# Altium footprint library 搅拌杯PCB.PcbLib: 17 footprints (part 1 of 2)
Each footprint in its own frame and in the unit in brackets; x right, y up, seen from the top. Pads: shape width x height; smd on the part's side, far side on the other; paste and mask are expansions set on the pad; w line width, h text height; cw(c..) or ccw(c..) is an arc to the next point about the centre after c.
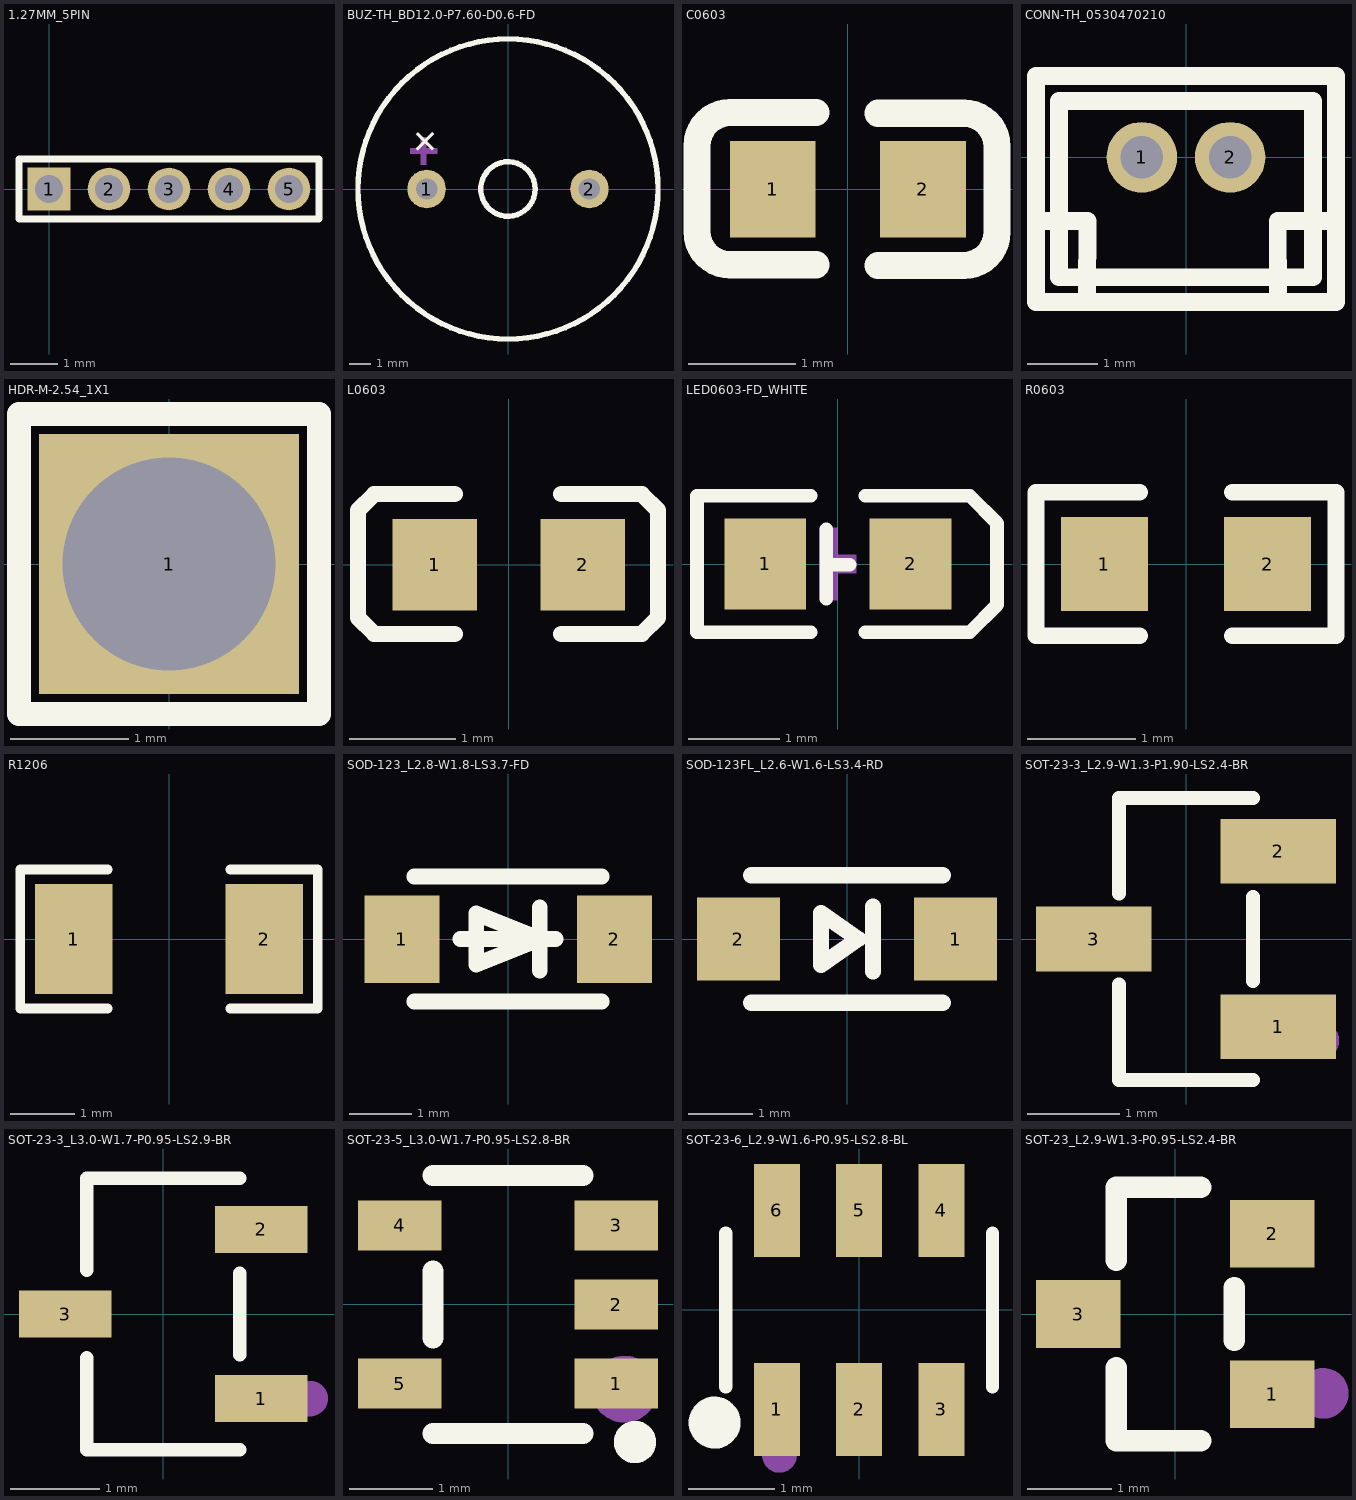
[diagram p0: the footprints below, top view; thin cyan lines are the x and y axes]

## 1.27MM_5PIN [mm]
pads (5):
  rect 0.9x0.9 hole 0.6: 1(0,0)
  round 0.9 hole 0.6: 2(1.27,0) 3(2.54,0) 4(3.81,0) 5(5.08,0)
Top Overlay:
  lines w0.15: -0.635,-0.635 5.715,-0.635 5.715,0.635 -0.635,0.635 -0.635,-0.635

## BUZ-TH_BD12.0-P7.60-D0.6-FD [mm]
pads (2):
  round 1.8 hole 1: 1(-3.8,0) 2(3.8,0)
Top Overlay:
  circle w0.254: c0,0 r7
  circle w0.254: c0,0 r1.27
  text "+" at -3.996,1.316 h1.27
Mechanical 15:
  region: -4.064,1.27 -4.064,2.413 -3.81,2.413 -3.81,1.143 -4.064,1.143
  region: -4.445,1.905 -3.302,1.905 -3.302,1.651 -4.572,1.651 -4.572,1.905

## C0603 [mm]
pads (2):
  rect 0.8x0.9 smd: 1(-0.7,0) 2(0.7,0)
Top Overlay:
  lines w0.254: -0.296,-0.704 -1.096,-0.704 cw(c-1.096,-0.394) -1.406,-0.394 -1.405,0.406 cw(c-1.096,0.406) -1.096,0.715 -0.296,0.715 ; 0.28,-0.71 1.08,-0.71 ccw(c1.08,-0.4) 1.39,-0.4 1.39,0.4 ccw(c1.08,0.4) 1.08,0.71 0.28,0.71

## CONN-TH_0530470210 [mm]
pads (2):
  round 1 hole 0.6: 1(-0.625,0) 2(0.625,0)
Top Overlay:
  lines w0.254: -2.1,-0.9 -1.398,-0.9 -1.4,-2 ; 1.302,-2 1.3,-0.9 2.002,-0.9 ; -2.125,-2.05 2.125,-2.05 2.125,1.15 -2.125,1.151 -2.125,-2.05 ; -1.8,-1.7 -1.8,0.8 1.8,0.8 1.8,-1.7 -1.8,-1.7

## HDR-M-2.54_1X1 [mm]
pads (1):
  rect 2.2x2.2 hole 1.8: 1(0,0)
Top Overlay:
  lines w0.203: -1.27,-1.27 -1.27,1.27 1.27,1.27 1.27,-0.635 1.27,-1.27 -1.27,-1.27

## L0603 [mm]
pads (2):
  rect 0.8x0.864 smd: 1(-0.7,0) 2(0.7,0)
Top Overlay:
  lines w0.152: -0.51,-0.651 -1.272,-0.651 -1.424,-0.499 -1.424,0.517 -1.272,0.67 -0.51,0.67 ; 0.496,-0.651 1.258,-0.651 1.411,-0.499 1.411,0.517 1.258,0.67 0.496,0.67
Top Paste:
  region: 0.264,0.154 0.264,-0.122 0.538,-0.416 1.042,-0.416 1.106,-0.352 1.106,0.384 1.042,0.448 0.538,0.448
  region: -0.252,0.143 -0.252,-0.134 -0.526,-0.427 -1.029,-0.427 -1.093,-0.363 -1.093,0.373 -1.029,0.437 -0.526,0.437

## LED0603-FD_WHITE [mm]
pads (2):
  rect 0.9x1 smd: 1(-0.8,0) 2(0.8,0)
Top Overlay:
  lines w0.15: -1.55,-0.75 -0.3,-0.75 ; -1.55,-0.75 -1.55,0.73 ; -1.55,0.75 -0.3,0.75 ; -0.127,-0.381 -0.127,0.381 ; -0.127,-0.006 0.127,-0.006 ; 0.3,-0.75 1.45,-0.75 1.75,-0.45 1.75,-0.35 1.75,0.35 1.75,0.45 1.45,0.75 0.3,0.75
Mechanical 15:
  region: -0.865,-0.273 -0.865,0.327 -0.715,0.327 -0.715,-0.273
  region: 0.6,0.1 1.2,0.1 1.2,-0.05 0.6,-0.05
  region: -1.1,0.1 -0.5,0.1 -0.5,-0.05 -1.1,-0.05
  region: -0.2,0.4 0,0.4 0,-0.4 -0.2,-0.4
  region: 0,0.1 0.2,0.1 0.2,-0.1 0,-0.1

## R0603 [mm]
pads (2):
  rect 0.806x0.864 smd: 1(-0.753,0) 2(0.753,0)
Top Overlay:
  lines w0.152: -0.426,-0.661 -1.385,-0.661 -1.385,0.661 -0.426,0.661 ; 0.426,-0.661 1.385,-0.661 1.385,0.661 0.426,0.661
Top Paste:
  region: 1.195,0.45 0.395,0.45 0.345,0.4 0.345,0.172 0.715,0.172 0.715,-0.158 0.345,-0.158 0.345,-0.4 0.395,-0.45 1.195,-0.45 1.245,-0.4 1.245,0.4
  region: -0.355,0.4 -0.355,0.172 -0.735,0.172 -0.735,-0.158 -0.355,-0.158 -0.355,-0.4 -0.405,-0.45 -1.195,-0.45 -1.245,-0.4 -1.245,0.4 -1.195,0.45 -0.405,0.45

## R1206 [mm]
pads (2):
  rect 1.208x1.701 smd: 1(-1.479,0) 2(1.479,0)
Top Overlay:
  lines w0.152: -0.951,-1.079 -2.311,-1.079 -2.311,1.079 -0.951,1.079 ; 0.951,-1.079 2.311,-1.079 2.311,1.079 0.951,1.079
Top Paste:
  region: 0.875,-0.75 0.875,-0.389 0.975,-0.289 1.186,-0.289 1.286,-0.189 1.286,0.189 1.186,0.289 0.975,0.289 0.875,0.389 0.875,0.75 0.975,0.85 1.983,0.85 2.083,0.75 2.083,-0.75 1.983,-0.85 0.975,-0.85
  region: -0.875,-0.75 -0.875,-0.389 -0.975,-0.289 -1.186,-0.289 -1.286,-0.189 -1.286,0.189 -1.186,0.289 -0.975,0.289 -0.875,0.389 -0.875,0.75 -0.975,0.85 -1.983,0.85 -2.083,0.75 -2.083,-0.75 -1.983,-0.85 -0.975,-0.85

## SOD-123_L2.8-W1.8-LS3.7-FD [mm]
pads (2):
  rect 1.2x1.4 smd: 1(-1.7,0) 2(1.7,0)
Top Overlay:
  lines w0.254: -1.5,-1 1.5,-1 ; -1.5,1 1.5,1 ; -0.762,0 0.762,0 ; 0.508,-0.508 0.508,0.508 ; -0.508,-0.406 -0.508,0.406 0.508,0 -0.508,-0.406
Mechanical 15:
  region: -2.166,0.213 -1.291,0.213 -1.291,0.043 -2.166,0.043 -2.166,0.053
  region: -1.812,-0.378 -1.812,0.497 -1.642,0.497 -1.642,-0.378 -1.652,-0.378
  region: 1.308,0.141 2.183,0.141 2.183,-0.028 1.308,-0.028 1.308,-0.019

## SOD-123FL_L2.6-W1.6-LS3.4-RD [mm]
pads (2):
  rect 1.3x1.3 smd: 1(1.7,0) 2(-1.7,0)
Top Overlay:
  lines w0.254: -1.5,-1 1.5,-1 ; -1.5,1 1.5,1 ; 0.406,-0.508 0.406,0.508 ; -0.406,-0.406 -0.406,0.406 0.178,0 -0.406,-0.406
Mechanical 15:
  region: 1.35,0.05 2.082,0.05 2.082,-0.16 1.35,-0.16 1.35,-0.154
  region: -1.85,0.55 -1.6,0.55 -1.6,-0.4 -1.85,-0.4
  region: -2.115,0.213 -1.383,0.213 -1.383,0.003 -2.115,0.003 -2.115,0.009

## SOT-23-3_L2.9-W1.3-P1.90-LS2.4-BR [mm]
pads (3):
  rect 1.25x0.7 smd: 1(1,-0.95) 2(1,0.95) 3(-1,0)
Top Overlay:
  lines w0.152: -0.726,-0.495 -0.726,-1.526 0.726,-1.526 ; -0.726,0.495 -0.726,1.526 0.726,1.526 ; 0.726,-0.455 0.726,0.455
Mechanical 15:
  circle w0.2: c1.46,-1.1 r0.1

## SOT-23-3_L3.0-W1.7-P0.95-LS2.9-BR [mm]
pads (3):
  rect 1.037x0.532 smd: 1(1.101,-0.95) 2(1.101,0.95) 3(-1.101,0)
Top Overlay:
  lines w0.152: -0.859,-0.495 -0.859,-1.526 0.859,-1.526 ; -0.859,0.495 -0.859,1.526 0.859,1.526 ; 0.859,-0.455 0.859,0.455
Mechanical 15:
  circle w0.2: c1.65,-0.95 r0.1

## SOT-23-5_L3.0-W1.7-P0.95-LS2.8-BR [mm]
pads (5):
  rect 1x0.6 smd: 1(1.3,-0.95) 2(1.3,0) 3(1.3,0.95) 4(-1.3,0.95) 5(-1.3,-0.95)
Top Overlay:
  circle w0.254: c1.524,-1.651 r0.127
  lines w0.254: -0.9,-1.55 0.9,-1.55 ; -0.9,-0.4 -0.9,0.4 ; -0.9,1.55 0.9,1.55
Mechanical 15:
  circle w0.4: c1.397,-1.016 r0.2

## SOT-23-6_L2.9-W1.6-P0.95-LS2.8-BL [mm]
pads (6):
  rect 0.532x1.072 smd: 1(-0.95,-1.149) 2(0,-1.149) 3(0.95,-1.149) 4(0.95,1.149) 5(0,1.149) 6(-0.95,1.149)
Top Overlay:
  circle w0.3: c-1.668,-1.301 r0.15
  lines w0.152: -1.539,-0.889 -1.539,0.889 ; 1.539,-0.889 1.539,0.889
Mechanical 15:
  circle w0.2: c-0.92,-1.68 r0.1

## SOT-23_L2.9-W1.3-P0.95-LS2.4-BR [mm]
pads (3):
  rect 1x0.8 smd: 1(1.15,-0.95) 2(1.15,0.95) 3(-1.15,0)
Top Overlay:
  lines w0.254: -0.7,-0.636 -0.7,-1.5 0.3,-1.5 ; -0.7,0.636 -0.7,1.5 0.3,1.5 ; 0.7,-0.314 0.7,0.314
Mechanical 15:
  circle w0.3: c1.753,-0.94 r0.15